# Altium footprint library Devindia_v4.0.PcbLib: 116 footprints (part 8 of 8)
Each footprint in its own frame and in the unit in brackets; x right, y up, seen from the top. Pads: shape width x height; smd on the part's side, far side on the other; paste and mask are expansions set on the pad; w line width, h text height; cw(c..) or ccw(c..) is an arc to the next point about the centre after c.
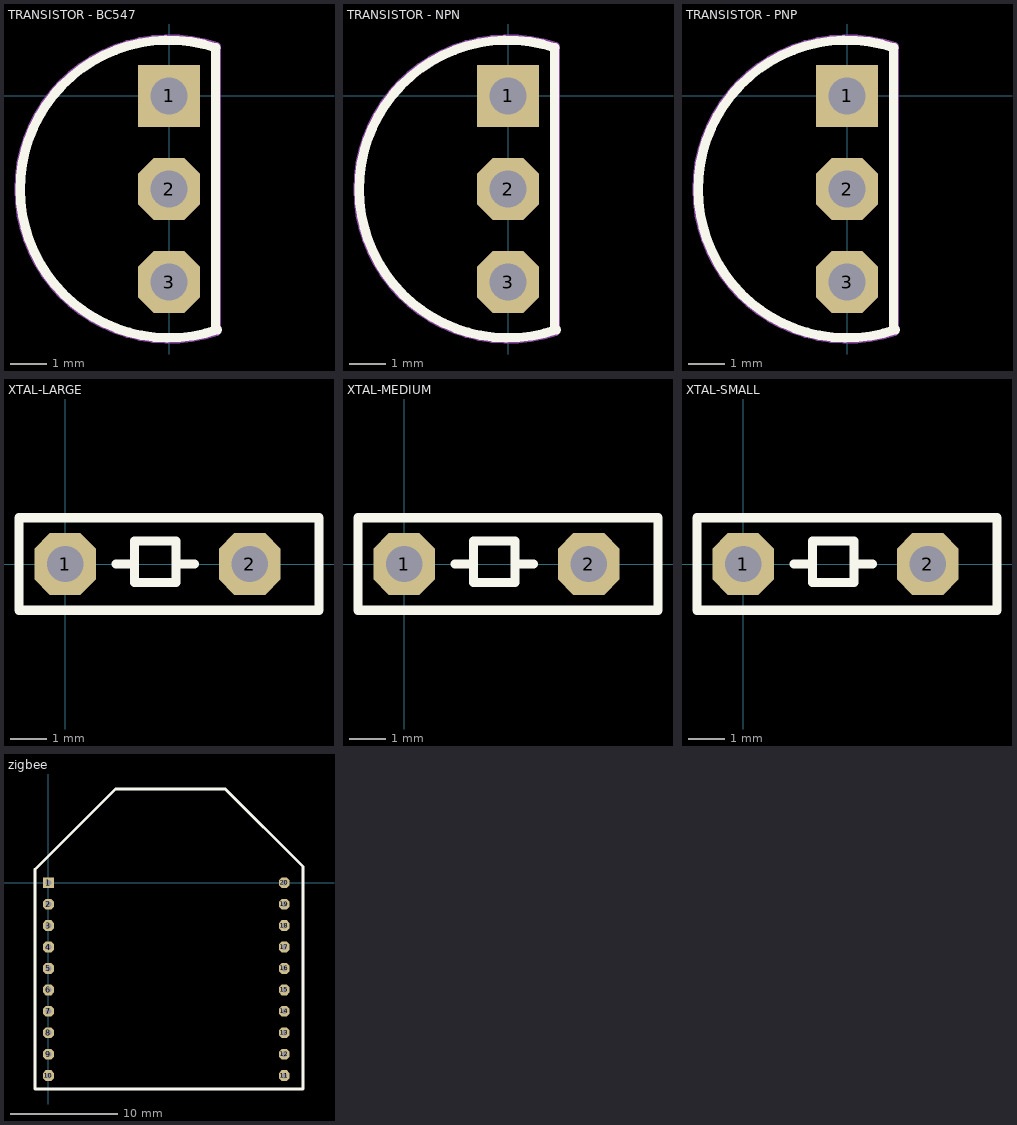
[diagram p7: the footprints below, top view; thin cyan lines are the x and y axes]

## TRANSISTOR - BC547 [mm]
pads (3):
  rect 1.7x1.7 hole 1: 1(0,0)
  oct 1.7x1.7 hole 1: 2(0,-2.54) 3(0,-5.08)
Top Overlay:
  lines w0.254: 1.27,-6.35 1.27,0.635 1.27,1.27 ; 1.285,1.315 ccw(c0,-2.54) 1.325,-6.382
Mechanical 1:
  lines w0.254: 1.295,-6.425 cw(c0,-2.54) 1.295,1.345 1.295,-6.425
3D body: height 3, standoff 0, extent -0.498,-5.588 0.498,-4.59
3D body: height 3, standoff 0, extent -0.498,-3.048 0.498,-2.05
3D body: height 3, standoff 0, extent -0.498,-0.508 0.498,0.49
3D body: height 7, standoff 3, extent -4.109,-6.649 1.299,1.569

## TRANSISTOR - NPN [mm]
pads (3):
  rect 1.7x1.7 hole 1: 1(0,0)
  oct 1.7x1.7 hole 1: 2(0,-2.54) 3(0,-5.08)
Top Overlay:
  lines w0.254: 1.27,-6.35 1.27,0.635 1.27,1.27 ; 1.285,1.315 ccw(c0,-2.54) 1.325,-6.382
Mechanical 1:
  lines w0.254: 1.295,-6.425 cw(c0,-2.54) 1.295,1.345 1.295,-6.425
3D body: height 7, standoff 3, extent -4.109,-6.649 1.299,1.569
3D body: height 3, standoff 0, extent -0.498,-0.508 0.498,0.49
3D body: height 3, standoff 0, extent -0.498,-3.048 0.498,-2.05
3D body: height 3, standoff 0, extent -0.498,-5.588 0.498,-4.59

## TRANSISTOR - PNP [mm]
pads (3):
  rect 1.7x1.7 hole 1: 1(0,0)
  oct 1.7x1.7 hole 1: 2(0,-2.54) 3(0,-5.08)
Top Overlay:
  lines w0.254: 1.27,-6.35 1.27,0.635 1.27,1.27 ; 1.285,1.315 ccw(c0,-2.54) 1.325,-6.382
Mechanical 1:
  lines w0.254: 1.295,-6.425 cw(c0,-2.54) 1.295,1.345 1.295,-6.425
3D body: height 3, standoff 0, extent -0.498,-5.588 0.498,-4.59
3D body: height 3, standoff 0, extent -0.498,-3.048 0.498,-2.05
3D body: height 3, standoff 0, extent -0.498,-0.508 0.498,0.49
3D body: height 7, standoff 3, extent -4.109,-6.649 1.299,1.569

## XTAL-LARGE [mm]
pads (2):
  oct 1.7x1.7 hole 1: 1(0,0) 2(5.08,0)
Top Overlay:
  lines w0.254: 1.397,0 1.905,0 ; 3.048,0 3.556,0 ; -1.27,-1.27 6.985,-1.27 6.985,1.27 -1.27,1.27 -1.27,-1.27 ; 1.905,-0.508 3.048,-0.508 3.048,0.635 1.905,0.635 1.905,-0.508
3D body: height 13.1, standoff 0.3, extent -0.254,-1.778 5.334,1.778
3D body: height 13.15, standoff 0.3, extent 3.873,-1.743 7.366,1.743
3D body: height 13.15, standoff 0.3, extent -1.715,-1.743 1.778,1.743
3D body: height 0.3, standoff 0, extent 0,-2.25 6.1,2.159
3D body: height 0.3, standoff 0, extent -2.069,-2.224 2.323,2.159
3D body: height 0.3, standoff 0, extent 3.483,-2.191 7.874,2.191

## XTAL-MEDIUM [mm]
pads (2):
  oct 1.7x1.7 hole 1: 1(0,0) 2(5.08,0)
Top Overlay:
  lines w0.254: 1.397,0 1.905,0 ; 3.048,0 3.556,0 ; -1.27,-1.27 -1.27,1.27 6.985,1.27 6.985,-1.27 -1.27,-1.27 ; 1.905,-0.508 1.905,0.635 3.048,0.635 3.048,-0.508 1.905,-0.508
3D body: height 0.3, standoff 0, extent 3.483,-2.191 7.874,2.191
3D body: height 0.3, standoff 0, extent -2.069,-2.224 2.323,2.159
3D body: height 0.3, standoff 0, extent 0,-2.224 6.096,2.159
3D body: height 3.63, standoff 0.3, extent -1.715,-1.743 1.778,1.743
3D body: height 3.63, standoff 0.3, extent 3.873,-1.743 7.366,1.743
3D body: height 3.6, standoff 0.3, extent -0.254,-1.778 5.334,1.778

## XTAL-SMALL [mm]
pads (2):
  oct 1.7x1.7 hole 1: 1(0,0) 2(5.08,0)
Top Overlay:
  lines w0.254: 1.397,0 1.905,0 ; 3.048,0 3.556,0 ; -1.27,-1.27 -1.27,1.27 6.985,1.27 6.985,-1.27 -1.27,-1.27 ; 1.905,-0.508 1.905,0.635 3.048,0.635 3.048,-0.508 1.905,-0.508
3D body: height 0.3, standoff 0, extent 3.429,-2.225 7.821,2.158
3D body: height 0.3, standoff 0, extent -2.069,-2.224 2.323,2.159
3D body: height 0.3, standoff 0, extent 0,-2.225 6.1,2.159
3D body: height 3.63, standoff 0.3, extent -1.715,-1.743 1.778,1.743
3D body: height 3.63, standoff 0.3, extent 3.873,-1.743 7.366,1.743
3D body: height 3.6, standoff 0.3, extent -0.254,-1.75 5.6,1.75

## zigbee [mm]
pads (20):
  rect 1x1 hole 0.53: 1(0,0)
  oct 1x1 hole 0.53: 2(0,-2) 3(0,-4) 4(0,-6) 5(0,-8) 6(0,-10) 7(0,-12) 8(0,-14) 9(0,-16) 10(0,-18) 11(22,-18) 12(22,-16) 13(22,-14) 14(22,-12) 15(22,-10) 16(22,-8) 17(22,-6) 18(22,-4) 19(22,-2) 20(22,0)
Top Overlay:
  lines w0.254: -1.25,-19.25 23.75,-19.25 23.75,1.5 16.5,8.75 12.5,8.75 6.25,8.75 -1.25,1.25 -1.25,-19.25
3D body: height 5.2, standoff 4, extent 12.4,-17.1 13.594,-15.905
3D body: height 5.2, standoff 4, extent 12.4,-16.6 13.595,-12.6
3D body: height 5, standoff 4.2, extent 12.6,-15.5 13.397,4.5
3D body: height 4, standoff 2, extent -1.25,-19.25 23.75,8.75
3D body: height 2, standoff 0, extent -0.25,-0.25 0.289,0.288
3D body: height 2, standoff 0, extent -0.25,-2.25 0.289,-1.712
3D body: height 2, standoff 0, extent -0.25,-4.25 0.289,-3.712
3D body: height 2, standoff 0, extent -0.25,-6.25 0.289,-5.712
3D body: height 2, standoff 0, extent -0.25,-8.25 0.289,-7.712
3D body: height 2, standoff 0, extent -0.25,-10.25 0.289,-9.712
3D body: height 2, standoff 0, extent -0.25,-12.25 0.289,-11.712
3D body: height 2, standoff 0, extent -0.25,-14.25 0.289,-13.712
3D body: height 2, standoff 0, extent -0.25,-16.25 0.289,-15.712
3D body: height 2, standoff 0, extent -0.25,-18.25 0.289,-17.712
3D body: height 2, standoff 0, extent 21.75,-18.25 22.289,-17.712
3D body: height 2, standoff 0, extent 21.75,-16.25 22.289,-15.712
3D body: height 2, standoff 0, extent 21.75,-14.25 22.289,-13.712
3D body: height 2, standoff 0, extent 21.75,-12.25 22.289,-11.712
3D body: height 2, standoff 0, extent 21.75,-10.25 22.289,-9.712
3D body: height 2, standoff 0, extent 21.75,-8.25 22.289,-7.712
3D body: height 2, standoff 0, extent 21.75,-6.25 22.289,-5.712
3D body: height 2, standoff 0, extent 21.75,-4.25 22.289,-3.712
3D body: height 2, standoff 0, extent 21.75,-2.25 22.289,-1.712
3D body: height 2, standoff 0, extent 21.75,-0.25 22.289,0.288
3D body: height 4.01, standoff 4, extent 9.5,6.5 10.5,7.5
3D body: height 4.01, standoff 4, extent 12.5,6.5 13.5,7.5
3D body: height 4.01, standoff 4, extent 12.5,4 13.5,5
3D body: height 4.01, standoff 4, extent 9.5,4 10.5,5
3D body: height 2, standoff 1, extent 1.5,-18.5 20.5,1